# EAGLE library part MAX300X (library max1840)
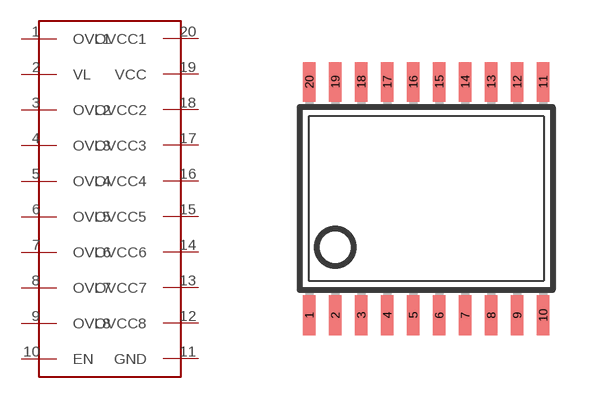
[diagram p1: symbol with the pads of TSSOP20; footprint TSSOP20]

Designator prefix -

## MAX300X  [TSSOP20]
1  OVL1
2  VL
3  OVL2
4  OVL3
5  OVL4
6  OVL5
7  OVL6
8  OVL7
9  OVL8
10  EN
11  GND
12  OVCC8
13  OVCC7
14  OVCC6
15  OVCC5
16  OVCC4
17  OVCC3
18  OVCC2
19  VCC
20  OVCC1

## Footprint TSSOP20 (pad centres in mm)
smd 0.305 x 0.991: 1 -2.925,-2.918; 2 -2.275,-2.918; 3 -1.625,-2.918; 4 -0.975,-2.918; 5 -0.325,-2.918; 6 0.325,-2.918; 7 0.975,-2.918; 8 1.625,-2.918; 9 2.275,-2.918; 10 2.925,-2.918; 11 2.925,2.918; 12 2.275,2.918; 13 1.625,2.918; 14 0.975,2.918; 15 0.325,2.918; 16 -0.325,2.918; 17 -0.975,2.918; 18 -1.625,2.918; 19 -2.275,2.918; 20 -2.925,2.918